# Altium footprint library Footprint_library.PcbLib: 44 footprints (part 3 of 3)
Each footprint in its own frame and in the unit in brackets; x right, y up, seen from the top. Pads: shape width x height; smd on the part's side, far side on the other; paste and mask are expansions set on the pad; w line width, h text height; cw(c..) or ccw(c..) is an arc to the next point about the centre after c.
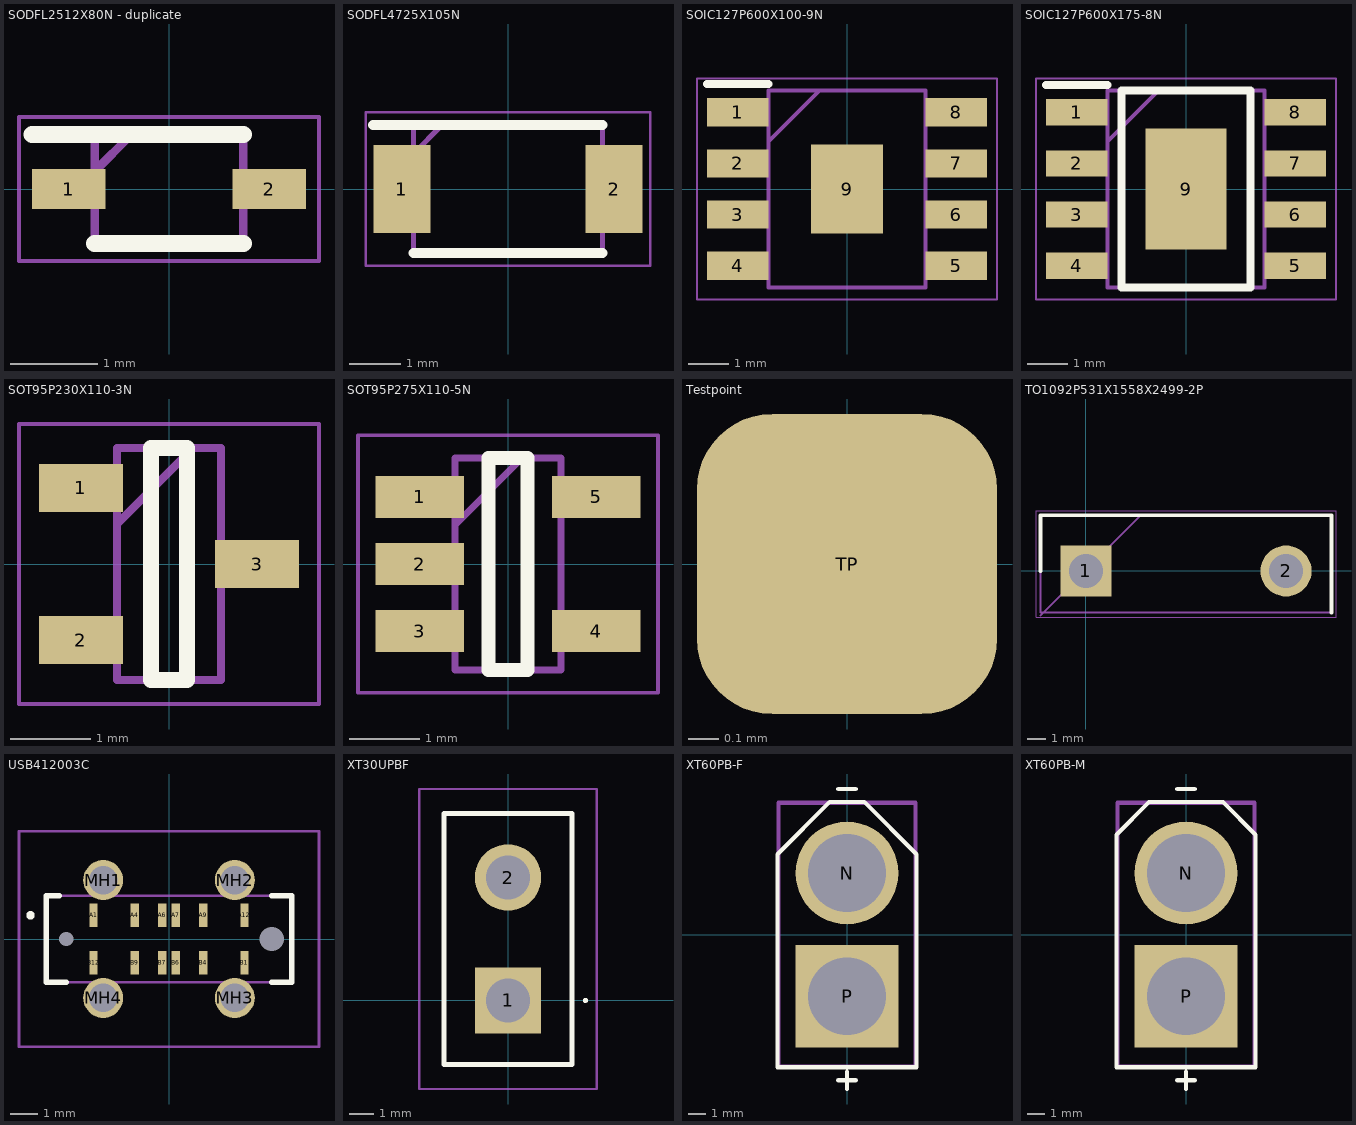
[diagram p2: the footprints below, top view; thin cyan lines are the x and y axes]

## SODFL2512X80N - duplicate [mm]
pads (2):
  rect 0.84x0.46 smd: 1(-1.15,0) 2(1.15,0)
Top Overlay:
  lines w0.2: -1.57,0.625 0.85,0.625 ; -0.85,-0.625 0.85,-0.625
Mechanical 13:
  lines w0.1: -0.85,0.205 -0.43,0.625 ; -0.85,-0.625 0.85,-0.625 0.85,0.625 -0.85,0.625 -0.85,-0.625
Mechanical 15:
  lines w0.05: -1.72,-0.825 1.72,-0.825 1.72,0.825 -1.72,0.825 -1.72,-0.825
3D body "PMEG6010CEJ,115.stp": height 0.71, standoff 0, extent -1.251,-0.627 1.249,0.623

## SODFL4725X105N [mm]
pads (2):
  rect 1.12x1.72 smd: 1(-2.075,0) 2(2.075,0)
Top Overlay:
  lines w0.2: -2.635,1.25 1.85,1.25 ; -1.85,-1.25 1.85,-1.25
Mechanical 13:
  lines w0.1: -1.85,0.69 -1.29,1.25 ; -1.85,-1.25 -1.85,1.25 1.85,1.25 1.85,-1.25 -1.85,-1.25
Mechanical 15:
  lines w0.05: -2.785,-1.5 -2.785,1.5 2.785,1.5 2.785,-1.5 -2.785,-1.5
3D body "RBR5LAM60ATFTR.stp": height 0.95, standoff 0, extent -2.35,-1.25 2.35,1.25

## SOIC127P600X100-9N [mm]
pads (9):
  rect 1.525x0.7 smd: 1(-2.712,1.905) 2(-2.712,0.635) 3(-2.712,-0.635) 4(-2.712,-1.905) 5(2.712,-1.905) 6(2.712,-0.635) 7(2.712,0.635) 8(2.712,1.905)
  rect 1.8x2.2 smd: 9(0,0)
Top Overlay:
  lines w0.2: -3.475,2.605 -1.95,2.605
Mechanical 13:
  lines w0.1: -1.95,1.18 -0.68,2.45 ; -1.95,-2.45 1.95,-2.45 1.95,2.45 -1.95,2.45 -1.95,-2.45
Mechanical 15:
  lines w0.05: -3.725,-2.75 3.725,-2.75 3.725,2.75 -3.725,2.75 -3.725,-2.75
3D body "BD9G401EFJ-ME2.stp": height 1, standoff 0, extent -3,-2.45 3,2.45

## SOIC127P600X175-8N [mm]
pads (9):
  rect 1.525x0.65 smd: 1(-2.712,1.905) 2(-2.712,0.635) 3(-2.712,-0.635) 4(-2.712,-1.905) 5(2.712,-1.905) 6(2.712,-0.635) 7(2.712,0.635) 8(2.712,1.905)
  rect 2x3 smd: 9(0,0)
Top Overlay:
  lines w0.2: -3.475,2.58 -1.95,2.58 ; -1.6,-2.45 -1.6,2.45 1.6,2.45 1.6,-2.45 -1.6,-2.45
Mechanical 13:
  lines w0.1: -1.95,1.18 -0.68,2.45 ; -1.95,-2.45 -1.95,2.45 1.95,2.45 1.95,-2.45 -1.95,-2.45
Mechanical 15:
  lines w0.05: -3.725,-2.75 -3.725,2.75 3.725,2.75 3.725,-2.75 -3.725,-2.75
3D body "NE555DR.stp": height 1.75, standoff 0, extent -3,-2.45 3,2.45

## SOT95P230X110-3N [mm]
pads (3):
  rect 1.05x0.6 smd: 1(-1.1,0.95) 2(-1.1,-0.95) 3(1.1,0)
Top Overlay:
  lines w0.2: -0.225,-1.45 -0.225,1.45 0.225,1.45 0.225,-1.45 -0.225,-1.45
Mechanical 13:
  lines w0.1: -0.65,0.5 0.3,1.45 ; -0.65,-1.45 -0.65,1.45 0.65,1.45 0.65,-1.45 -0.65,-1.45
Mechanical 15:
  lines w0.05: -1.875,-1.75 -1.875,1.75 1.875,1.75 1.875,-1.75 -1.875,-1.75
3D body "BAT54S,215.stp": height 0.95, standoff 0, extent -1.201,-1.448 1.199,1.452

## SOT95P275X110-5N [mm]
pads (5):
  rect 1.25x0.6 smd: 1(-1.25,0.95) 2(-1.25,0) 3(-1.25,-0.95) 4(1.25,-0.95) 5(1.25,0.95)
Top Overlay:
  lines w0.2: -0.275,-1.5 -0.275,1.5 0.275,1.5 0.275,-1.5 -0.275,-1.5
Mechanical 13:
  lines w0.1: -0.75,0.55 0.2,1.5 ; -0.75,-1.5 -0.75,1.5 0.75,1.5 0.75,-1.5 -0.75,-1.5
Mechanical 15:
  lines w0.05: -2.125,-1.825 -2.125,1.825 2.125,1.825 2.125,-1.825 -2.125,-1.825
3D body "LM321SN3T1G.stp": height 1.1, standoff 0, extent -1.375,-1.5 1.375,1.5

## Testpoint [mm]
pads (1):
  rrect50% 1x1 smd: TP(0,0)

## TO1092P531X1558X2499-2P [mm]
pads (2):
  rect 2.79x2.79 hole 1.86: 1(0,0)
  round 2.79 hole 1.86: 2(10.92,0)
Top Overlay:
  lines w0.2: -2.475,0 -2.475,3.035 13.395,3.035 13.395,-2.275
Mechanical 13:
  lines w0.1: -2.475,-2.425 2.985,3.035 ; -2.475,-2.275 13.395,-2.275 13.395,3.035 -2.475,3.035 -2.475,-2.275
Mechanical 15:
  lines w0.05: -2.725,-2.525 13.645,-2.525 13.645,3.285 -2.725,3.285 -2.725,-2.525
3D body "VS-60EPU04-N3.stp": height 25.05, standoff -10.76, extent -2.395,-2.214 13.305,2.807

## USB412003C [mm]
pads (18):
  rect 0.3x0.87 smd: A1(-2.75,0.865) A4(-1.25,0.865) A6(-0.25,0.865) A7(0.25,0.865) A9(1.25,0.865) A12(2.75,0.865) B1(2.75,-0.865) B4(1.25,-0.865) B6(0.25,-0.865) B7(-0.25,-0.865) B9(-1.25,-0.865) B12(-2.75,-0.865)
  round 1.46 hole 1.04: MH1(-2.4,2.15) MH2(2.4,2.15) MH3(2.4,-2.15) MH4(-2.4,-2.15)
  round 0.26 hole 0.52 unplated: MH5(-3.75,0)
  round 0.445 hole 0.89 unplated: MH6(3.75,0)
Top Overlay:
  lines w0.2: -5.1,0.865 cw(c-5.05,0.865) -5,0.865 ; -5.1,0.865 ccw(c-5.05,0.865) -5,0.865 ; -5.1,0.865 -5,0.865 ; -4.47,-1.58 -4.47,1.58 ; -4.47,-1.58 -4.47,1.58 ; -4.47,-1.58 -3.75,-1.58 -4.47,-1.58 ; -4.47,1.58 -4,1.58 -4.47,1.58 ; 4.47,-1.58 4.47,1.58 ; 4.47,-1.58 4.47,1.58 ; 4.47,-1.58 3.75,-1.58 4.47,-1.58 ; 4.47,1.58 3.75,1.58 4.47,1.58
Mechanical 13:
  lines w0.1: -4.47,-1.58 -4.47,1.58 4.47,1.58 4.47,-1.58 -4.47,-1.58
Mechanical 15:
  lines w0.1: -5.47,-3.93 -5.47,3.93 5.47,3.93 5.47,-3.93 -5.47,-3.93
3D body "USB4120-03-C.stp": height 6.5, standoff -0.95, extent -4.47,-2.3 4.47,2.3

## XT30UPBF [mm]
pads (2):
  rect 2.7x2.7 hole 1.8: 1(0,0)
  round 2.7 hole 1.8: 2(0,5)
Top Overlay:
  lines w0.1: 3.1,0 cw(c3.15,0) 3.2,0 cw(c3.15,0) 3.1,0
  lines w0.2: -2.6,-2.6 2.6,-2.6 2.6,7.6 -2.6,7.6 -2.6,-2.6
Mechanical 13:
  lines w0.1: -2.6,-2.6 2.6,-2.6 2.6,7.6 -2.6,7.6 -2.6,-2.6
Mechanical 15:
  lines w0.1: -3.6,-3.6 3.6,-3.6 3.6,8.6 -3.6,8.6 -3.6,-3.6
3D body "XT30UPB-F.stp": height 9.41, standoff -1.99, extent -2.807,-2.6 2.807,7.6

## XT60PB-F [mm] "Connector"
height 18.7
pads (2):
  round 6 hole 4.55: N(0,3.6)
  rect 6x6 / inner round 6 / far side rect 6x6 hole 4.55: P(0,-3.6)
Top Overlay:
  lines w0.254: -4.064,4.318 -4.064,4.699 -1.016,7.747 1.016,7.747 4.064,4.699 4.064,-1.778 4.064,-7.747 -4.064,-7.747 -4.064,4.445 ; -0.508,-8.509 0.508,-8.509 ; 0,-9.017 0,-8.001 ; 0.508,8.509 0,8.509 ; 0,8.509 -0.508,8.509 0,8.509
Mechanical 1:
  lines w0.254: -4,-7.7 -4,7.7 4,7.7 4,-7.7 -4,-7.7
3D body "XT60PB-F.stp": height 16.69, standoff -3, extent -3.898,-7.795 4,7.7

## XT60PB-M [mm] "Connector"
height 18.9
pads (2):
  round 6 hole 4.55: N(0,3.6)
  rect 6x6 / inner round 6 / far side rect 6x6 hole 4.55: P(0,-3.6)
Top Overlay:
  lines w0.254: -0.508,-8.509 0.508,-8.509 ; 0,-9.017 0,-8.001 ; 0.508,8.509 0,8.509 ; 0,8.509 -0.508,8.509 0,8.509 ; -4.064,-7.747 -4.064,5.842 -2.159,7.747 2.159,7.747 4.064,5.842 4.064,-1.778 4.064,-7.747 -4.064,-7.747
Mechanical 1:
  lines w0.254: -4,-7.7 4,-7.7 4,7.7 -4,7.7 -4,-7.7
3D body "XT60PB-M.stp": height 15.9, standoff -3, extent -4,-7.7 4,7.7